# EAGLE library part MPU-9250 (library Modded Devices)
Multiple Function Sensor Modules Nine-Axis (Gyro + Accelerometer + Compass) MEMS MotionTracking Device Source: Datasheet <https://store.invensense.com/datasheets/invensense/MPU9250REV1.0.pdf>
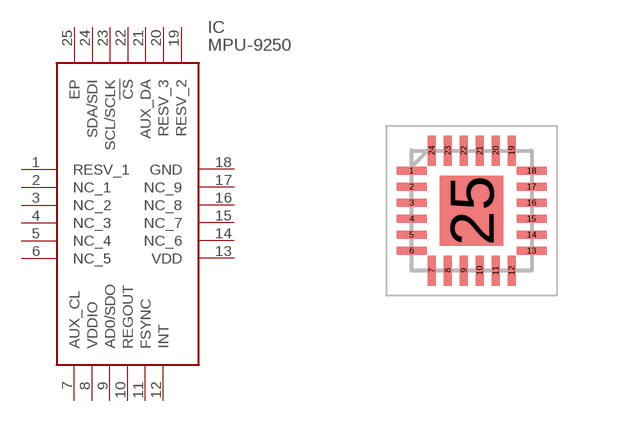
[diagram p0: symbol with the pads of QFN40P300X300X105-25N; footprint QFN40P300X300X105-25N]

Designator prefix IC

## MPU-9250 (Description: Multiple Function Sensor Modules Nine-Axis (Gyro + Accelerometer + Compass) MEMS MotionTracking Device; Height: 1.05mm; Manufacturer_Name: InvenSense Inc.; Manufacturer_Part_Number: MPU-9250; Mouser_Part_Number: 410-MPU-9250; Mouser_Price-Stock: https://www.mouser.com/Search/Refine.aspx?Keyword=410-MPU-9250; RS_Part_Number: 1774858; RS_Price-Stock: http://uk.rs-online.com/web/p/products/1774858)  [QFN40P300X300X105-25N]
1  RESV_1
2  NC_1
3  NC_2
4  NC_3
5  NC_4
6  NC_5
7  AUX_CL
8  VDDIO
9  AD0/SDO
10  REGOUT
11  FSYNC
12  INT
13  VDD
14  NC_6
15  NC_7
16  NC_8
17  NC_9
18  GND
19  RESV_2
20  RESV_3
21  AUX_DA
22  !CS
23  SCL/SCLK
24  SDA/SDI
25  EP

## Footprint QFN40P300X300X105-25N (pad centres in mm)
16 Lead LGA (3x3x0.75)
smd 0.75 x 0.2: 1 -1.5,1; 2 -1.5,0.6; 3 -1.5,0.2; 4 -1.5,-0.2; 5 -1.5,-0.6; 6 -1.5,-1; 13 1.5,-1; 14 1.5,-0.6; 15 1.5,-0.2; 16 1.5,0.2; 17 1.5,0.6; 18 1.5,1
smd 0.2 x 0.75: 7 -1,-1.5; 8 -0.6,-1.5; 9 -0.2,-1.5; 10 0.2,-1.5; 11 0.6,-1.5; 12 1,-1.5; 19 1,1.5; 20 0.6,1.5; 21 0.2,1.5; 22 -0.2,1.5; 23 -0.6,1.5; 24 -1,1.5
smd 1.59 x 1.75: 25 0,0